# Altium footprint library TSSOP20.PcbLib: 1 footprints
Each footprint in its own frame and in the unit in brackets; x right, y up, seen from the top. Pads: shape width x height; smd on the part's side, far side on the other; paste and mask are expansions set on the pad; w line width, h text height; cw(c..) or ccw(c..) is an arc to the next point about the centre after c.
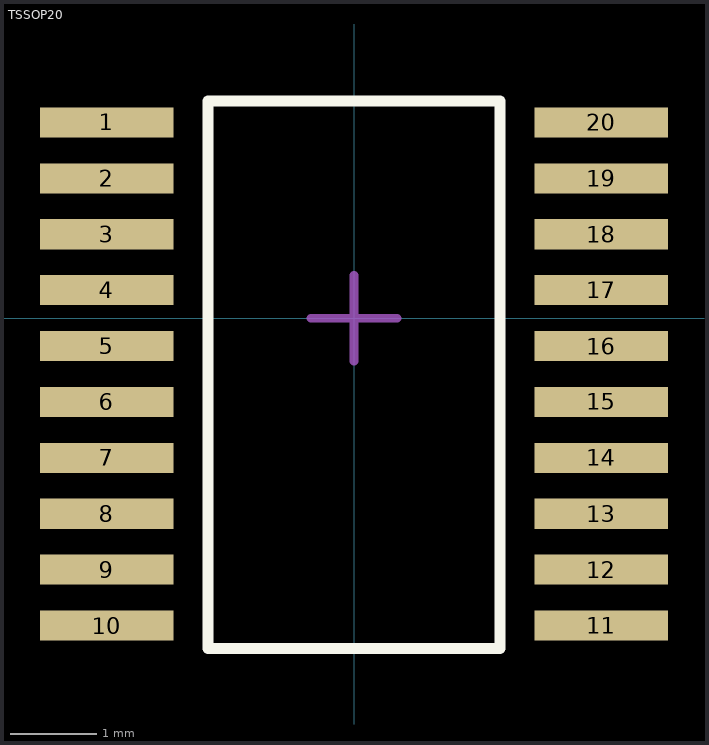
[diagram p0: the footprint, top view; thin cyan lines are the x and y axes]

## TSSOP20 [mm]
pads (20):
  rect 1.55x0.35 smd: 1(-2.875,2.275) 2(-2.875,1.625) 3(-2.875,0.975) 4(-2.875,0.325) 5(-2.875,-0.325) 6(-2.875,-0.975) 7(-2.875,-1.625) 8(-2.875,-2.275) 9(-2.875,-2.925) 10(-2.875,-3.575) 11(2.875,-3.575) 12(2.875,-2.925) 13(2.875,-2.275) 14(2.875,-1.625) 15(2.875,-0.975) 16(2.875,-0.325) 17(2.875,0.325) 18(2.875,0.975) 19(2.875,1.625) 20(2.875,2.275)
Top Overlay:
  lines w0.127: -1.7,-3.841 1.7,-3.841 1.7,2.526 -1.7,2.526 -1.7,-3.841
  text "." at -4.166,2.28 h0.38
Mechanical 15:
  lines w0.1: -0.5,0 0.5,0 ; 0,-0.5 0,0.5
3D body: height 1.2, standoff 0, extent -3.174,-3.907 3.226,2.593